# Altium footprint library QFN50P400X400X60-25N.PcbLib: 1 footprints
Each footprint in its own frame and in the unit in brackets; x right, y up, seen from the top. Pads: shape width x height; smd on the part's side, far side on the other; paste and mask are expansions set on the pad; w line width, h text height; cw(c..) or ccw(c..) is an arc to the next point about the centre after c.
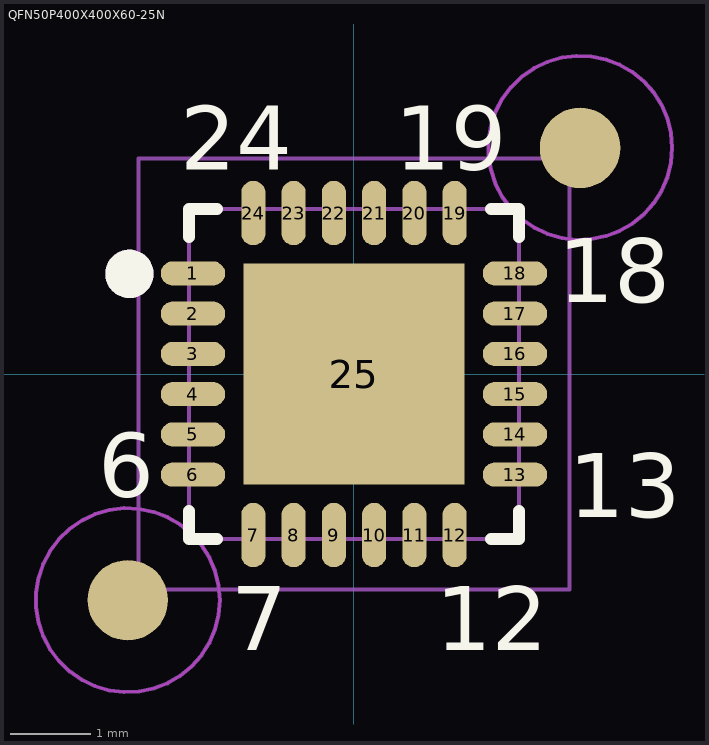
[diagram p0: the footprint, top view; thin cyan lines are the x and y axes]

## QFN50P400X400X60-25N [mm]
height 0.6
pads (27):
  oval 0.8x0.3 smd mask+0: 1(-2,1.25) 2(-2,0.75) 3(-2,0.25) 4(-2,-0.25) 5(-2,-0.75) 6(-2,-1.25) 13(2,-1.25) 14(2,-0.75) 15(2,-0.25) 16(2,0.25) 17(2,0.75) 18(2,1.25)
  oval 0.3x0.8 smd mask+0: 7(-1.25,-2) 8(-0.75,-2) 9(-0.25,-2) 10(0.25,-2) 11(0.75,-2) 12(1.25,-2) 19(1.25,2) 20(0.75,2) 21(0.25,2) 22(-0.25,2) 23(-0.75,2) 24(-1.25,2)
  rect 2.75x2.75 smd paste-2.75 mask+0: 25(0,0)
  round 1 smd paste-1 mask+0.5: ""(-2.809,-2.809) ""(2.81,2.81)
Top Layer keep-out:
  circle w0.025: c2.81,2.81 r1.143
  circle w0.025: c-2.809,-2.809 r1.143
Top Overlay:
  circle w0.4: c-2.789,1.245 r0.1
  lines w0.15: -2.05,-1.7 -2.05,-2.05 -1.7,-2.05 ; -2.05,1.7 -2.05,2.05 -1.7,2.05 ; 1.7,-2.05 2.05,-2.05 2.05,-1.7 ; 1.7,2.05 2.05,2.05 2.05,1.7
  text "6" at -3.175,-1.524 h0.8
  text "7" at -1.524,-3.429 h0.8
  text "12" at 1.016,-3.429 h0.8
  text "13" at 2.667,-1.778 h0.8
  text "18" at 2.54,0.889 h0.8
  text "19" at 0.508,2.54 h0.8
  text "24" at -2.159,2.54 h0.8
Top Paste:
  rectangle: -0.875,0.25 -0.25,0.875
  rectangle: 0.25,0.25 0.875,0.875
  rectangle: 0.25,-0.875 0.875,-0.25
  rectangle: -0.875,-0.875 -0.25,-0.25
Mechanical 13:
  circle w0.4: c-2.789,1.245 r0.1
  lines w0.05: -2.05,-2.05 2.05,-2.05 2.05,2.05 -2.05,2.05 -2.05,-2.05
  text ".Designator" at -3.957,-0.443 h0.8
Mechanical 15:
  circle w0.05: c-2.809,-2.809 r1.143
  circle w0.05: c2.81,2.81 r1.143
  lines w0.05: -2.675,-2.675 2.675,-2.675 2.675,2.675 -2.675,2.675 -2.675,-2.675
3D body: height 0.6, standoff 0, extent -2.049,-2.049 2.049,2.049